# Altium schematic symbol library Relay.SchLib: 2 symbols
Pins are listed as number, name and electrical type; pins without a type are passive.

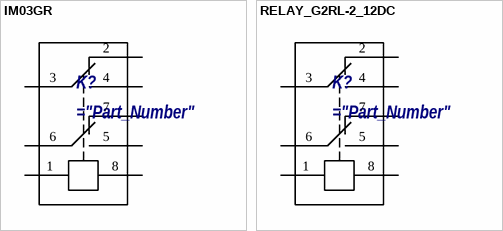
[diagram p0: symbols IM03GR to RELAY_G2RL-2_12DC]

## IM03GR
designator K?
="Purchase"
pins: 1, 2, 3, 4, 5, 6, 7, 8

## RELAY_G2RL-2_12DC
designator K?
="Purchase"
pins: 1, 2, 3, 4, 5, 6, 7, 8